# EAGLE library part _CON_MOD_4P4C_H_(85502-5009) (library SamacSys_Parts)
Connector,4/4,PCB,socket,r/a surface mount Source: Datasheet <https://www.molex.com/pdm_docs/sd/855025009_sd.pdf>
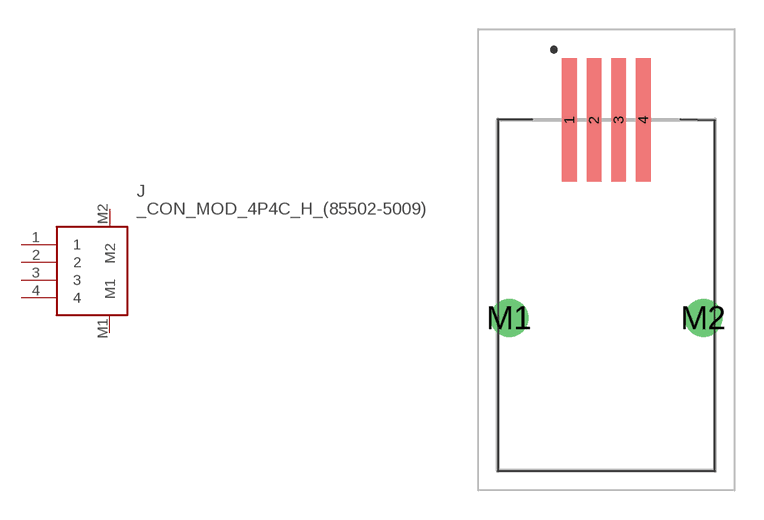
[diagram p44: symbol with the pads of 85502-5009; footprint 85502-5009]

Designator prefix J

## _CON_MOD_4P4C_H_(85502-5009) (DESCRIPTION: Connector,4/4,PCB,socket,r/a surface mount; HEIGHT: 11.65mm; MANUFACTURER_NAME: Molex; MANUFACTURER_PART_NUMBER: 85502-5009; MOUSER_PART_NUMBER: 538-85502-5009; MOUSER_PRICE-STOCK: https://www.mouser.co.uk/ProductDetail/Molex/95501-6449?qs=z%252B5g3C%2FEJ6OAArm87e6Q0Q%3D%3D)  [85502-5009]
1  1
2  2
3  3
4  4
M1  M1
M2  M2

## Footprint 85502-5009 (pad centres in mm)
95501-6449-1
smd 0.76 x 6.35: 1 -1.905,9.022; 2 -0.635,9.022; 3 0.635,9.022; 4 1.905,9.022
drill 1.3: M1 -5,-1.17; M2 5,-1.17